# Altium footprint library 五向开关.PcbLib: 2 footprints
Each footprint in its own frame and in the unit in brackets; x right, y up, seen from the top. Pads: shape width x height; smd on the part's side, far side on the other; paste and mask are expansions set on the pad; w line width, h text height; cw(c..) or ccw(c..) is an arc to the next point about the centre after c.
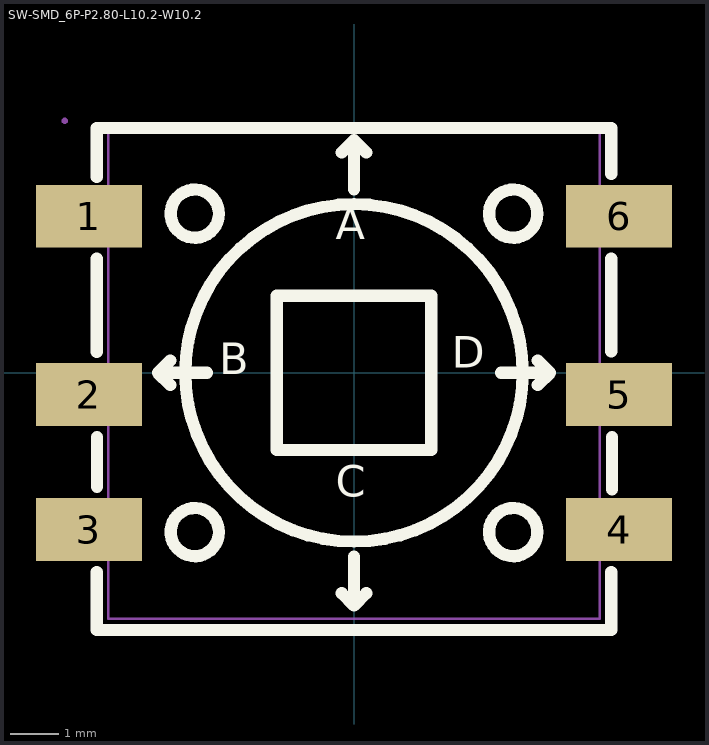
[diagram p0: the footprints below, top view; thin cyan lines are the x and y axes]

## PCBComponent_1 [mm]

## SW-SMD_6P-P2.80-L10.2-W10.2 [mm]
pads (6):
  rect 2.2x1.3 smd: 1(-5.5,3.25) 2(-5.5,-0.45) 3(-5.5,-3.25) 4(5.5,-3.25) 5(5.5,-0.45) 6(5.5,3.25)
Top Overlay:
  circle w0.254: c0,0 r3.5
  circle w0.254: c-3.302,3.302 r0.5
  circle w0.254: c3.302,3.302 r0.5
  circle w0.254: c-3.302,-3.302 r0.5
  circle w0.254: c3.302,-3.302 r0.5
  lines w0.254: -5.334,-4.131 -5.334,-5.334 5.334,-5.334 5.334,-4.131 ; -5.334,0.44 -5.334,0.881 -5.334,2.369 ; -5.334,4.064 -5.334,5.08 5.334,5.08 5.334,4.131 ; -5.334,4.131 -5.334,4.572 ; -5.33,-2.36 -5.33,-1.331 ; -3.81,-0.254 -4.064,0 ; -3.81,0.254 -4.064,0 ; -3.048,0 -4.064,0 ; -0.254,-4.572 0,-4.826 ; -0.254,4.572 0,4.826 ; 0,-3.81 0,-4.826 ; 0,3.81 0,4.826 ; 0.254,-4.572 0,-4.826 ; 0.254,4.572 0,4.826 ; 3.048,0 4.064,0 ; 3.81,-0.254 4.064,0 ; 3.81,0.254 4.064,0 ; 5.334,0.45 5.334,0.881 5.334,2.369 ; 5.35,-2.42 5.35,-1.331 ; -1.6,-1.6 -1.6,1.6 1.6,1.6 1.6,-1.6 -1.6,-1.6
  text "C" at -0.381,-2.565 h0.65
  text "D" at 2.032,0.102 h0.65
  text "A" at -0.381,2.769 h0.65
  text "B" at -2.794,-0.025 h0.65
Mechanical 6:
  circle w0.5: c-6.096,3.302 r0.25
Mechanical 15:
  region: -6,2.75 -6,3.75 -5.4,3.75 -5.4,2.75
  region: -5.41,2.75 -5.41,3.75 -5.09,3.75 -5.09,2.75
  region: -6,-0.95 -6,0.05 -5.4,0.05 -5.4,-0.95
  region: -5.41,-0.95 -5.41,0.05 -5.09,0.05 -5.09,-0.95
  region: -6,-3.75 -6,-2.75 -5.4,-2.75 -5.4,-3.75
  region: -5.41,-3.75 -5.41,-2.75 -5.09,-2.75 -5.09,-3.75
  region: 5.4,-3.75 5.4,-2.75 6,-2.75 6,-3.75
  region: 5.09,-3.75 5.09,-2.75 5.41,-2.75 5.41,-3.75
  region: 5.4,-0.95 5.4,0.05 6,0.05 6,-0.95
  region: 5.09,-0.95 5.09,0.05 5.41,0.05 5.41,-0.95
  region: 5.4,2.75 5.4,3.75 6,3.75 6,2.75
  region: 5.09,2.75 5.09,3.75 5.41,3.75 5.41,2.75
  region: -5.94,5.227 -5.94,5.252 -5.975,5.287 -6.025,5.287 -6.06,5.252 -6.06,5.227 -6.06,5.202 -6.025,5.167 -5.975,5.167 -5.94,5.202 -5.94,5.227
  lines w0.051: -5.1,-5.1 5.1,-5.1 5.1,5.1 -5.1,5.1 -5.1,-5.1